# Altium footprint library PcbLib1.PcbLib: 26 footprints (part 1 of 2)
Each footprint in its own frame and in the unit in brackets; x right, y up, seen from the top. Pads: shape width x height; smd on the part's side, far side on the other; paste and mask are expansions set on the pad; w line width, h text height; cw(c..) or ccw(c..) is an arc to the next point about the centre after c.
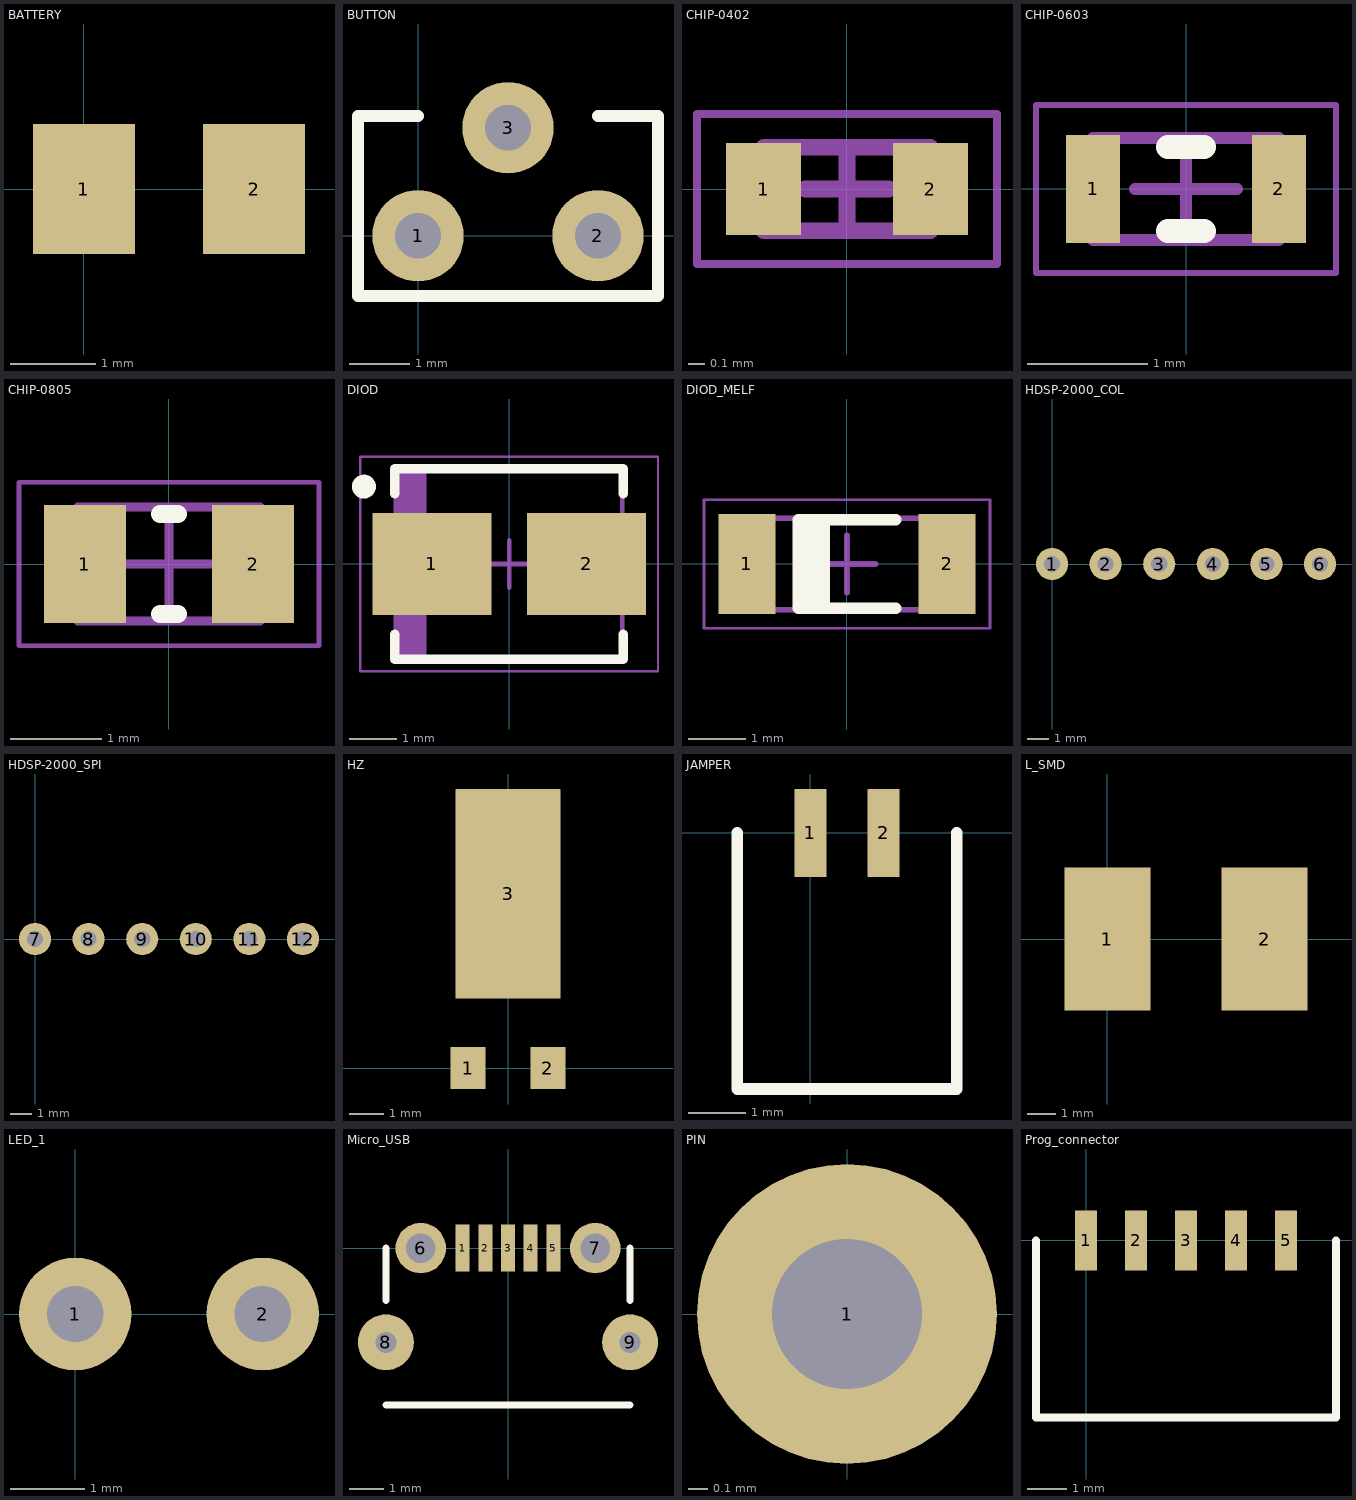
[diagram p0: the footprints below, top view; thin cyan lines are the x and y axes]

## BATTERY [mm]
pads (2):
  rect 1.2x1.524 smd: 1(0,0) 2(2,0)

## BUTTON [mil]
pads (3):
  round 60 hole 30: 1(0,0) 2(118.11,0) 3(59.06,70.87)
Top Overlay:
  lines w7.87: 0,78.74 -39.37,78.74 -39.37,-39.37 157.48,-39.37 157.48,78.74 118.11,78.74

## CHIP-0402 [mm] "Chip Resistor, 2-Leads, Body 1,00x0,50mm, IPC Medium Density"
height 0.35
pads (2):
  rect 0.45x0.55 smd: 1(-0.5,0) 2(0.5,0)
Mechanical 13:
  lines w0.1: -0.5,-0.25 0.5,-0.25 0.5,0.25 -0.5,0.25 -0.5,-0.25
Mechanical 15:
  lines w0.05: -0.9,-0.45 0.9,-0.45 0.9,0.45 -0.9,0.45 -0.9,-0.45
  lines w0.1: -0.25,0 0.25,0 ; 0,-0.25 0,0.25
3D body: height 0.35, standoff 0, extent 0.3,-0.25 0.5,0.25
3D body: height 0.35, standoff 0, extent -0.5,-0.25 -0.3,0.25
3D body: height 0.35, standoff 0, extent -0.3,-0.25 0.3,0.25

## CHIP-0603 [mm] "Chip Capacitor, 2-Leads, Body 1,55x0,85mm, IPC Medium Density"
height 0.35
pads (2):
  rect 0.45x0.9 smd: 1(-0.775,0) 2(0.775,0)
Top Overlay:
  lines w0.2: -0.15,-0.35 0.15,-0.35 ; -0.15,0.35 0.15,0.35
Mechanical 13:
  lines w0.1: -0.775,-0.425 0.775,-0.425 0.775,0.425 -0.775,0.425 -0.775,-0.425
Mechanical 15:
  lines w0.05: -1.25,-0.7 1.25,-0.7 1.25,0.7 -1.25,0.7 -1.25,-0.7
  lines w0.1: -0.425,0 0.425,0 ; 0,-0.425 0,0.425
3D body: height 0.35, standoff 0, extent 0.575,-0.425 0.775,0.425
3D body: height 0.35, standoff 0, extent -0.775,-0.425 -0.575,0.425
3D body: height 0.35, standoff 0, extent -0.575,-0.425 0.575,0.425

## CHIP-0805 [mm] "Chip Resistor, 2-Leads, Body 2,00x1,25mm, IPC Medium Density"
height 0.7
pads (2):
  rect 0.9x1.3 smd: 1(-0.925,0) 2(0.925,0)
Top Overlay:
  lines w0.2: -0.1,-0.55 0.1,-0.55 ; -0.1,0.55 0.1,0.55
Mechanical 13:
  lines w0.1: -1,-0.625 -1,0.625 1,0.625 1,-0.625 -1,-0.625
Mechanical 15:
  lines w0.05: -1.65,-0.9 -1.65,0.9 1.65,0.9 1.65,-0.9 -1.65,-0.9
  lines w0.1: -0.5,0 0.5,0 ; 0,-0.5 0,0.5
3D body: height 0.7, standoff 0, extent -0.5,-0.625 0.5,0.625
3D body: height 0.7, standoff 0, extent -1,-0.625 -0.5,0.625
3D body: height 0.7, standoff 0, extent 0.5,-0.625 1,0.625

## DIOD [mm] "Molded Diode, 2-Leads, Body 4,40x3,63mm, IPC Medium Density"
height 2.6
pads (2):
  rect 2.5x2.15 smd: 1(-1.625,0) 2(1.625,0)
Top Overlay:
  circle w0.25: c-3.05,1.625 r0.125
  lines w0.2: -2.4,-1.475 -2.4,-2 2.4,-2 2.4,-1.475 ; -2.4,1.475 -2.4,2 2.4,2 2.4,1.475
Mechanical 13:
  rectangle: -2.375,-1.975 -1.736,1.975
  lines w0.1: -2.375,-1.975 2.375,-1.975 2.375,1.975 -2.375,1.975 -2.375,-1.975
Mechanical 15:
  lines w0.05: -3.125,-2.25 3.125,-2.25 3.125,2.25 -3.125,2.25 -3.125,-2.25
  lines w0.1: -0.5,0 0.5,0 ; 0,-0.5 0,0.5
3D body: height 2.6, standoff 0, extent -2.375,-1.975 2.375,1.975

## DIOD_MELF [mm] "MELF Diode, 2-Leads, Body 3,50x1,53mm, IPC Medium Density"
height 1.6
pads (2):
  rect 1x1.75 smd: 1(-1.75,0) 2(1.75,0)
Top Overlay:
  rectangle: -0.85,-0.775 -0.3,0.775
  lines w0.2: 0.85,-0.775 -0.85,-0.775 -0.85,0.775 0.85,0.775
Mechanical 13:
  lines w0.1: -1.85,-0.8 1.85,-0.8 1.85,0.8 -1.85,0.8 -1.85,-0.8
Mechanical 15:
  lines w0.05: -2.5,-1.125 2.5,-1.125 2.5,1.125 -2.5,1.125 -2.5,-1.125
  lines w0.1: -0.5,0 0.5,0 ; 0,-0.5 0,0.5
3D body: height 1.59, standoff 0, extent 1.55,-0.8 1.85,0.797
3D body: height 1.58, standoff 0.04, extent -1.55,-0.77 1.55,0.767
3D body: height 1.58, standoff 0.04, extent -0.95,-0.771 -0.35,0.768
3D body: height 1.59, standoff 0, extent -1.85,-0.8 -1.55,0.797

## HDSP-2000_COL [mil]
pads (6):
  round 60 hole 30: 1(0,0) 2(100,0) 3(200,0) 4(300,0) 5(400,0) 6(500,0)

## HDSP-2000_SPI [mil]
pads (6):
  round 60 hole 30: 7(0,0) 8(100,0) 9(200,0) 10(300,0) 11(400,0) 12(500,0)

## HZ [mm]
pads (3):
  rect 1x1.2 smd: 1(-1.143,0) 2(1.143,0)
  rect 3x6 smd: 3(0,5)

## JAMPER [mm]
pads (2):
  rect 0.55x1.524 smd: 1(0,0) 2(1.27,0)
Top Overlay:
  lines w0.2: -1.27,0 -1.27,-4.445 2.54,-4.445 2.54,0

## L_SMD [mm]
pads (2):
  rect 3x5 smd: 1(0,0) 2(5.5,0)

## LED_1 [mil]
pads (2):
  round 60 hole 30: 1(0,0) 2(100,0)

## Micro_USB [mm]
pads (9):
  rect 0.4x1.35 smd: 1(-1.3,0) 2(-0.65,0) 3(0,0) 4(0.65,0) 5(1.3,0)
  round 1.45 hole 0.85: 6(-2.5,0) 7(2.5,0)
  round 1.6 hole 0.6: 8(-3.5,-2.7) 9(3.5,-2.7)
Top Overlay:
  lines w0.2: -3.5,-4.5 3.5,-4.5 ; -3.5,-1.5 -3.5,0 ; 3.5,-1.5 3.5,0

## PIN [mil]
pads (1):
  round 60 hole 30: 1(0,0)

## Prog_connector [mm]
pads (5):
  rect 0.55x1.524 smd: 1(0,0) 2(1.27,0) 3(2.54,0) 4(3.81,0) 5(5.08,0)
Top Overlay:
  lines w0.2: -1.27,0 -1.27,-4.5 6.35,-4.5 6.35,0